# Altium footprint library pathfinder_pcb.PcbLib: 35 footprints (part 3 of 3)
Each footprint in its own frame and in the unit in brackets; x right, y up, seen from the top. Pads: shape width x height; smd on the part's side, far side on the other; paste and mask are expansions set on the pad; w line width, h text height; cw(c..) or ccw(c..) is an arc to the next point about the centre after c.
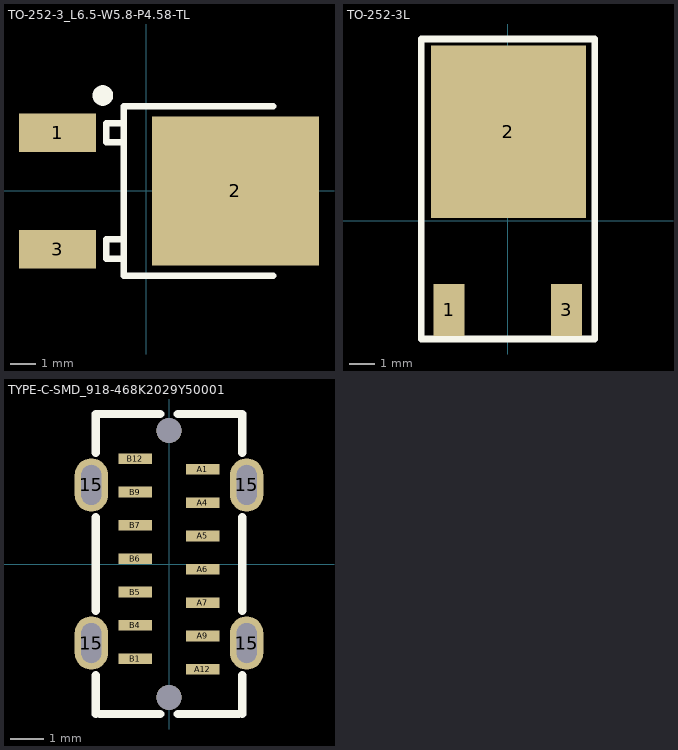
[diagram p2: the footprints below, top view; thin cyan lines are the x and y axes]

## TO-252-3_L6.5-W5.8-P4.58-TL [mm]
pads (3):
  rect 3x1.5 smd: 1(-3.457,2.26) 3(-3.457,-2.26)
  rect 6.5x5.8 smd: 2(3.457,0)
Top Overlay:
  lines w0.254: -1.057,-1.88 -1.517,-1.88 -1.557,-1.88 -1.557,-2.63 -0.877,-2.63 -0.877,-2.611 ; -1.057,2.64 -1.517,2.64 -1.557,2.64 -1.557,1.89 -0.877,1.89 -0.877,1.909 ; 4.923,-3.3 -0.877,-3.3 -0.877,3.3 4.923,3.3
  lines w0.4: -1.699,3.51 cw(c-1.698,3.71) -1.697,3.51
Mechanical 15:
  circle w0.4: c-4.39,2.25 r0.2

## TO-252-3L [mm]
pads (3):
  rect 1.2x2 smd: 1(-2.28,-3.457) 3(2.28,-3.457)
  rect 6x6.7 smd: 2(0.02,3.457)
Top Overlay:
  lines w0.254: -3.365,-4.583 3.365,-4.583 3.365,7.058 -3.365,7.058 -3.365,2.783 -3.365,-4.583

## TYPE-C-SMD_918-468K2029Y50001 [mm]
pads (20):
  oval 1x1.6 hole 0.6 slot 1.2 at 90 deg: 15(-2.33,-2.37) 15(-2.33,2.37) 15(2.33,-2.37) 15(2.33,2.37)
  rect 1x0.32 smd: A1(1.016,2.84) A4(1.016,1.84) A5(1.016,0.84) A6(1.016,-0.16) A7(1.016,-1.16) A9(1.016,-2.16) A12(1.016,-3.16) B1(-1.016,-2.84) B4(-1.016,-1.84) B5(-1.016,-0.84) B6(-1.016,0.16) B7(-1.016,1.16) B9(-1.016,2.16) B12(-1.016,3.16)
  round 0.75 hole 0.75 unplated: ""(0,-4) ""(0,4)
Top Overlay:
  lines w0.254: -2.2,-4.5 -2.2,-3.339 ; -2.2,-1.401 -2.2,1.401 ; -2.2,3.339 -2.2,4.5 -0.267,4.5 ; -2.079,-4.5 -0.267,-4.5 ; 0.267,-4.5 2.086,-4.5 ; 0.267,4.5 2.2,4.5 2.2,3.339 ; 2.2,-4.5 2.2,-3.339 ; 2.2,-1.401 2.2,1.401
Top Paste:
  drawing of 18 lines, arcs and shapes, not listed
Mechanical 15:
  circle w0.3: c0,4 r0.15
  circle w0.3: c0,-4 r0.15